# Altium footprint library PcbLib05_08.PcbLib: 8 footprints
Each footprint in its own frame and in the unit in brackets; x right, y up, seen from the top. Pads: shape width x height; smd on the part's side, far side on the other; paste and mask are expansions set on the pad; w line width, h text height; cw(c..) or ccw(c..) is an arc to the next point about the centre after c.
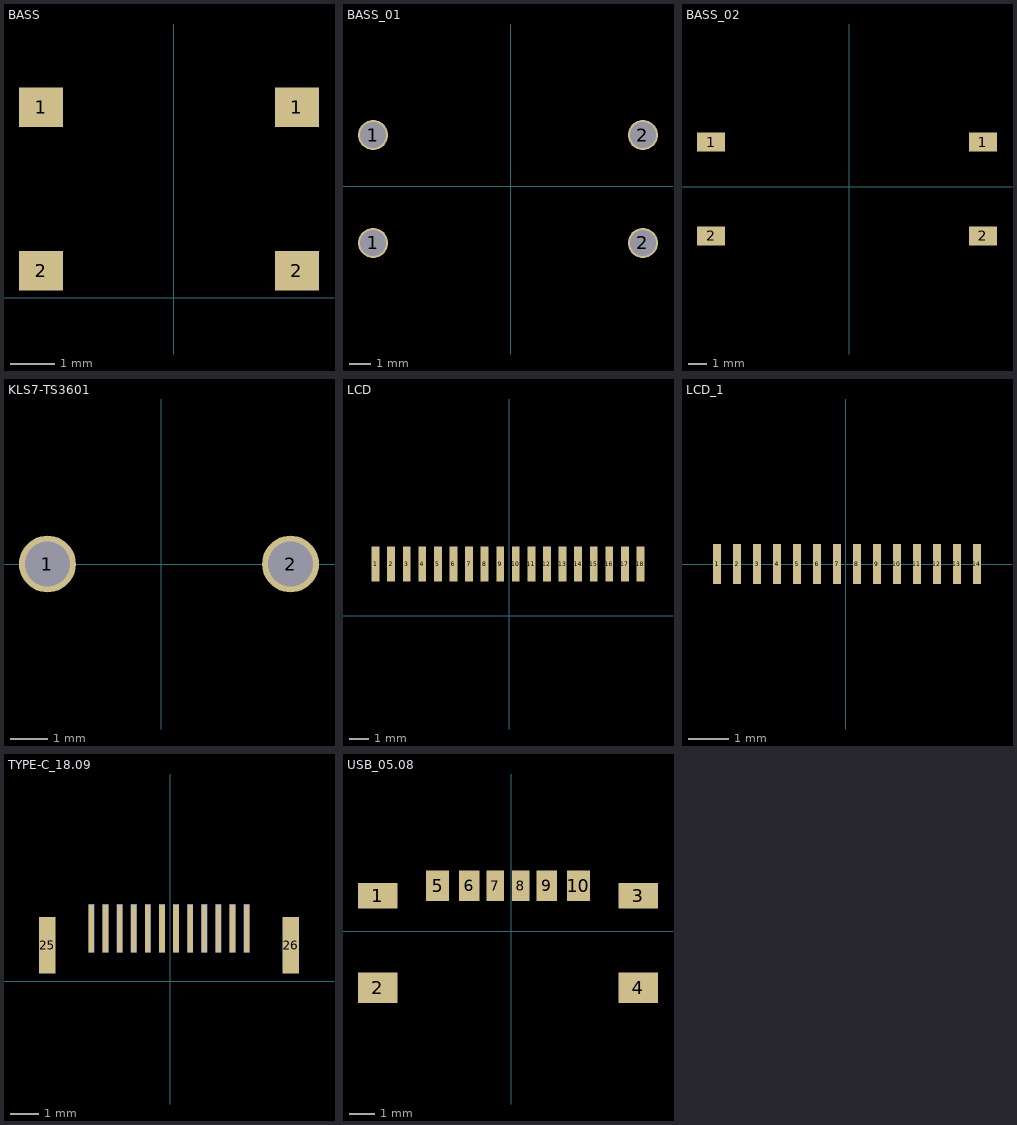
[diagram p0: the footprints below, top view; thin cyan lines are the x and y axes]

## BASS [mm]
pads (4):
  rect 1x0.9 smd: 1(-3.006,4.318) 1(2.794,4.318) 2(-3.006,0.618) 2(2.794,0.618)

## BASS_01 [mm]
pads (4):
  round 1.4 hole 1.2: 1(-6.375,-2.625) 1(-6.375,2.375) 2(6.125,-2.625) 2(6.125,2.375)

## BASS_02 [mm]
pads (4):
  rect 1.5x1 smd: 1(-7.375,2.375) 1(7.125,2.375) 2(-7.375,-2.625) 2(7.125,-2.625)

## KLS7-TS3601 [mil]
pads (2):
  round 60 hole 47.24: 1(-120,0) 2(135.91,0)

## LCD [mm]
pads (18):
  rect 0.4x1.8 smd: 1(-6.862,2.667) 2(-6.062,2.667) 3(-5.262,2.667) 4(-4.462,2.667) 5(-3.662,2.667) 6(-2.862,2.667) 7(-2.062,2.667) 8(-1.262,2.667) 9(-0.462,2.667) 10(0.338,2.667) 11(1.138,2.667) 12(1.938,2.667) 13(2.738,2.667) 14(3.538,2.667) 15(4.338,2.667) 16(5.138,2.667) 17(5.938,2.667) 18(6.738,2.667)

## LCD_1 [mm]
pads (14):
  rect 0.2x1 smd: 1(-3.225,0) 2(-2.725,0) 3(-2.225,0) 4(-1.725,0) 5(-1.225,0) 6(-0.725,0) 7(-0.225,0) 8(0.275,0) 9(0.775,0) 10(1.275,0) 11(1.775,0) 12(2.275,0) 13(2.775,0) 14(3.275,0)

## TYPE-C_18.09 [mm]
pads (26):
  rect 0.2x1.7 smd: 1(-2.8,1.875) 2(-2.3,1.875) 3(-1.8,1.875) 4(-1.3,1.875) 5(-0.8,1.875) 6(-0.3,1.875) 7(0.2,1.875) 8(0.7,1.875) 9(1.2,1.875) 10(1.7,1.875) 11(2.2,1.875) 12(2.7,1.875)
  rect 0.2x1.7 smd far side: 13(2.7,1.875) 14(2.2,1.875) 15(1.7,1.875) 16(1.2,1.875) 17(0.7,1.875) 18(0.2,1.875) 19(-0.3,1.875) 20(-0.8,1.875) 21(-1.3,1.875) 22(-1.8,1.875) 23(-2.3,1.875) 24(-2.8,1.875)
  rect 0.57x2 all layers, no hole: 25(-4.365,1.275) 26(4.265,1.275)

## USB_05.08 [mm]
pads (10):
  rect 1.55x1 smd: 1(-5.23,1.378) 3(4.96,1.385)
  rect 1.55x1.2 smd: 2(-5.23,-2.222) 4(4.96,-2.215)
  rect 0.9x1.2 smd: 5(-2.885,1.778) 10(2.615,1.778)
  rect 0.8x1.2 smd: 6(-1.655,1.778) 9(1.385,1.778)
  rect 0.7x1.2 smd: 7(-0.635,1.778) 8(0.365,1.778)